# Altium schematic symbol library SCH - MCU - NUVOTON - NUVOTON MS51FB9AE.SchLib: 1 symbol
Pins are listed as number, name and electrical type; pins without a type are passive.

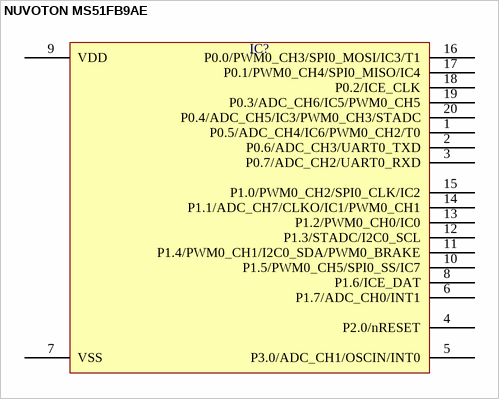
[diagram p0: symbol NUVOTON MS51FB9AE]

## NUVOTON MS51FB9AE
designator IC?  (value not drawn)
pins: 1 P0.5/ADC_CH4/IC6/PWM0_CH2/T0, 2 P0.6/ADC_CH3/UART0_TXD, 3 P0.7/ADC_CH2/UART0_RXD, 4 P2.0/nRESET, 5 P3.0/ADC_CH1/OSCIN/INT0, 6 P1.7/ADC_CH0/INT1, 7 VSS, 8 P1.6/ICE_DAT, 9 VDD, 10 P1.5/PWM0_CH5/SPI0_SS/IC7, 11 P1.4/PWM0_CH1/I2C0_SDA/PWM0_BRAKE, 12 P1.3/STADC/I2C0_SCL, 13 P1.2/PWM0_CH0/IC0, 14 P1.1/ADC_CH7/CLKO/IC1/PWM0_CH1, 15 P1.0/PWM0_CH2/SPI0_CLK/IC2, 16 P0.0/PWM0_CH3/SPI0_MOSI/IC3/T1, 17 P0.1/PWM0_CH4/SPI0_MISO/IC4, 18 P0.2/ICE_CLK, 19 P0.3/ADC_CH6/IC5/PWM0_CH5, 20 P0.4/ADC_CH5/IC3/PWM0_CH3/STADC